# EAGLE library part HIROSE-FH12 (library Nwazet.Go)
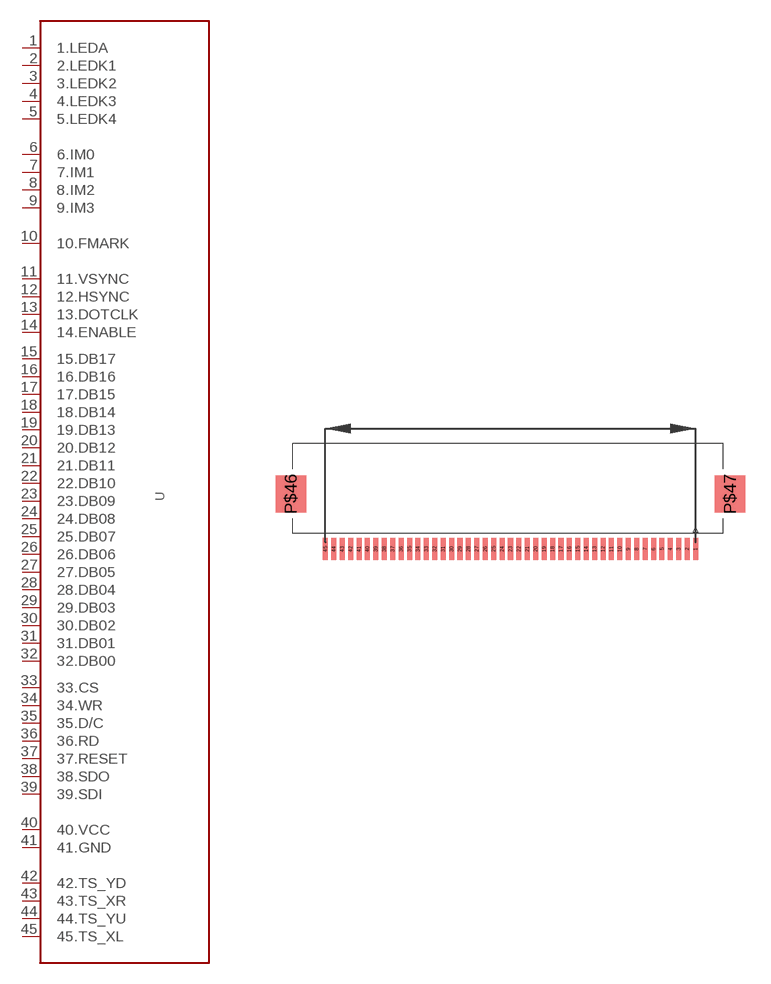
[diagram p5: symbol with the pads of HIROSE-FH12S-45S-0.5SH; footprint HIROSE-FH12S-45S-0.5SH]

Designator prefix -

## HIROSE-FH12  [HIROSE-FH12S-45S-0.5SH]
1  1.LEDA  sup
2  2.LEDK1  pas
3  3.LEDK2  pas
4  4.LEDK3  pas
5  5.LEDK4  pas
6  6.IM0  in
7  7.IM1  in
8  8.IM2  in
9  9.IM3  in
10  10.FMARK  out
11  11.VSYNC  in
12  12.HSYNC  in
13  13.DOTCLK  in
14  14.ENABLE  in
15  15.DB17
16  16.DB16
17  17.DB15
18  18.DB14
19  19.DB13
20  20.DB12
21  21.DB11
22  22.DB10
23  23.DB09
24  24.DB08
25  25.DB07
26  26.DB06
27  27.DB05
28  28.DB04
29  29.DB03
30  30.DB02
31  31.DB01
32  32.DB00
33  33.CS  in
34  34.WR  in
35  35.D/C  in
36  36.RD  in
37  37.RESET  in
38  38.SDO  out
39  39.SDI  in
40  40.VCC  sup
41  41.GND  pas
42  42.TS_YD
43  43.TS_XR
44  44.TS_YU
45  45.TS_XL

## Footprint HIROSE-FH12S-45S-0.5SH (pad centres in mm)
smd 0.3 x 1.3: 1 10.75,-0.65; 2 10.25,-0.65; 3 9.75,-0.65; 4 9.25,-0.65; 5 8.75,-0.65; 6 8.25,-0.65; 7 7.75,-0.65; 8 7.25,-0.65; 9 6.75,-0.65; 10 6.25,-0.65; 11 5.75,-0.65; 12 5.25,-0.65; 13 4.75,-0.65; 14 4.25,-0.65; 15 3.75,-0.65; 16 3.25,-0.65; 17 2.75,-0.65; 18 2.25,-0.65; 19 1.75,-0.65; 20 1.25,-0.65; 21 0.75,-0.65; 22 0.25,-0.65; 23 -0.25,-0.65; 24 -0.75,-0.65; 25 -1.25,-0.65; 26 -1.75,-0.65; 27 -2.25,-0.65; 28 -2.75,-0.65; 29 -3.25,-0.65; 30 -3.75,-0.65; 31 -4.25,-0.65; 32 -4.75,-0.65; 33 -5.25,-0.65; 34 -5.75,-0.65; 35 -6.25,-0.65; 36 -6.75,-0.65; 37 -7.25,-0.65; 38 -7.75,-0.65; 39 -8.25,-0.65; 40 -8.75,-0.65; 41 -9.25,-0.65; 42 -9.75,-0.65; 43 -10.25,-0.65; 44 -10.75,-0.65; 45 -11.25,-0.65
smd 1.8 x 2.2: P$46 -13.3,2.6; P$47 12.8,2.6